# Altium schematic symbol library PSSL3.SchLib: 184 symbols (part 2 of 3)
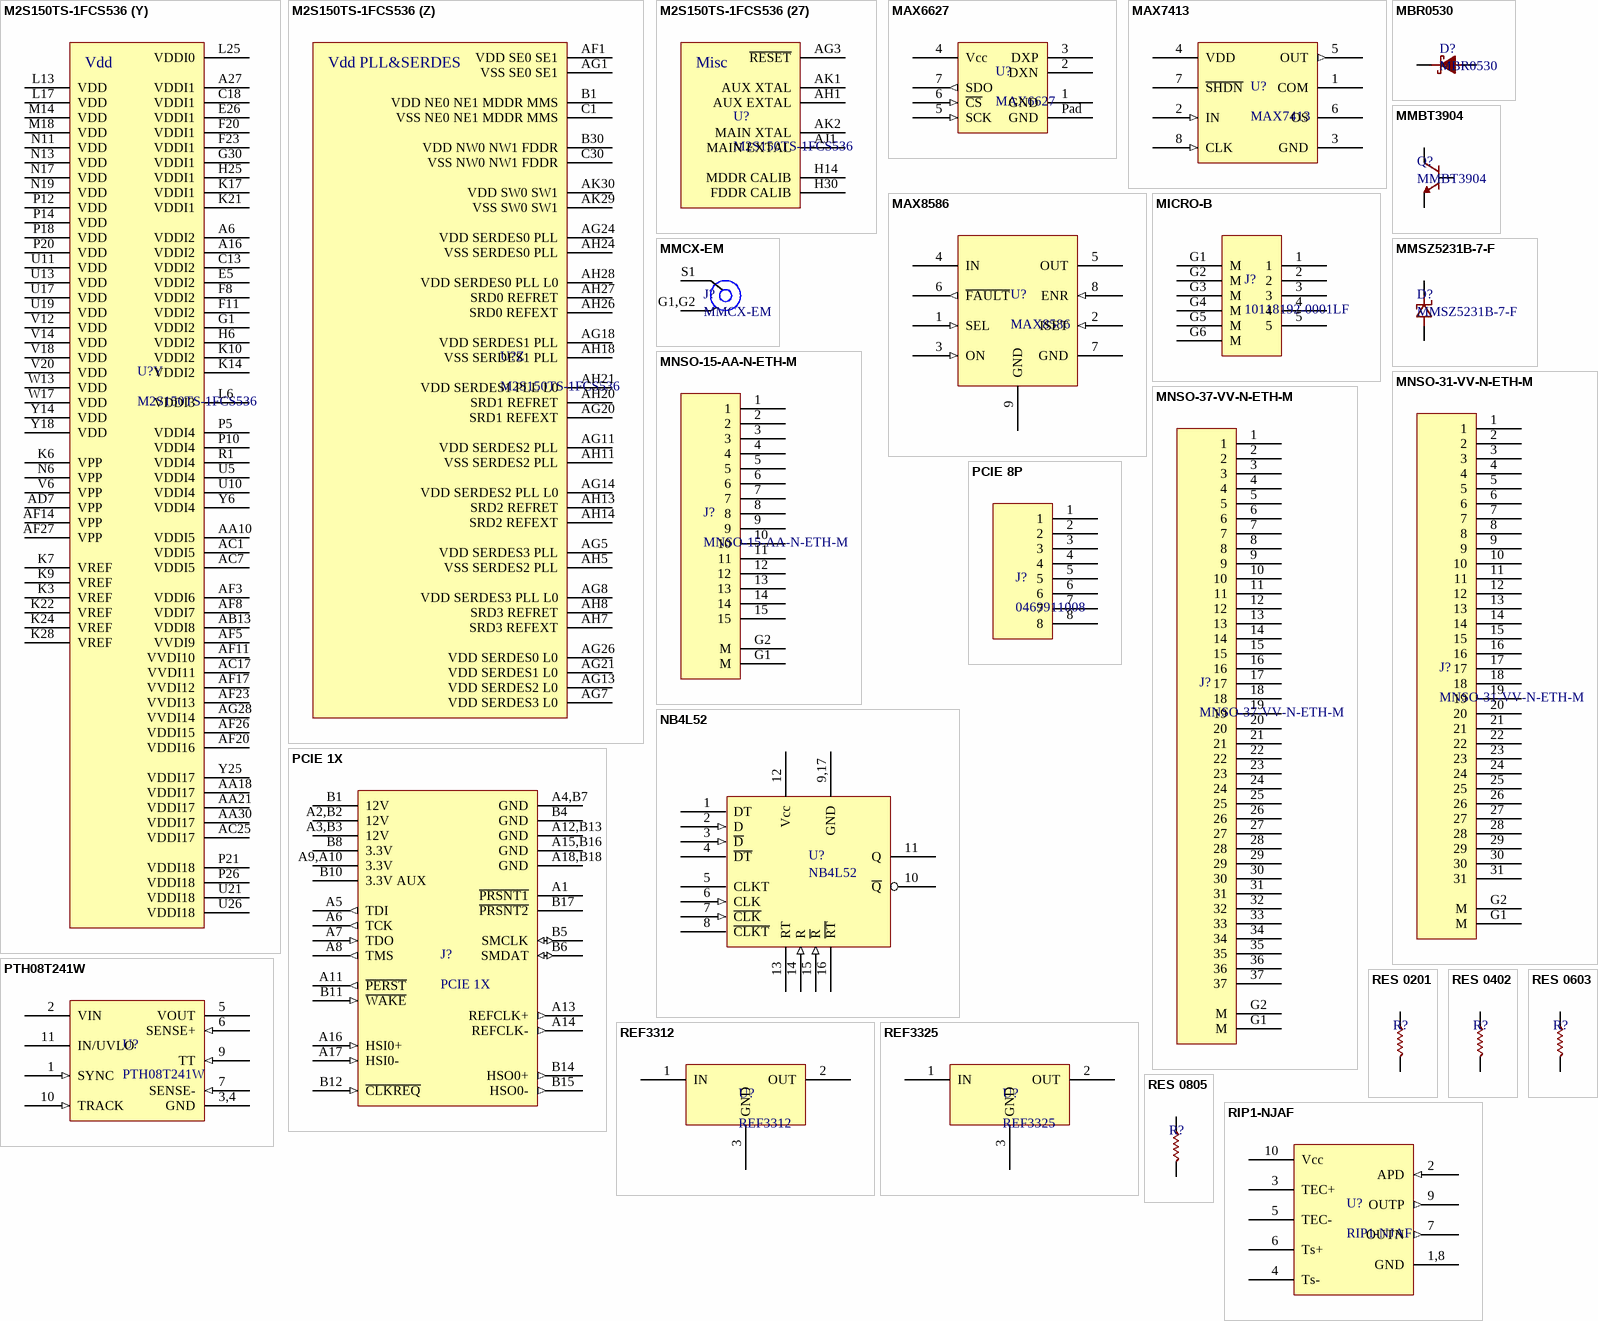
[diagram p10: symbols M2S150TS-1FCS536 to RIP1-NJAF]

## M2S150TS-1FCS536
designator U?
SmartFusion2 SoC FPGA; Ref: M2S150TS-1FCS536
footprint FCS536 (Microsemi FCS536 BGA)
part A pins: L21 M170P/CCC NW1 C3 (io), L22 M170N (io), L23 M171P/GB4/CCC NW1 C2 (io), L24 M171N (io), L26 M173N (io), L27 M172N (io), L28 M172P/GB0/CCC NW0 C3 (io), L30 M173P/CCC NW0 C2 (io)
part B pins: A18 D127P/FDDR_ADDR12 (io), A19 D127N/FDDR_ADDR13 (io), A20 D126N/FDDR_ADDR15 (io), A21 D126P/FDDR_ADDR14 (io), A23 D155P/FDDR_DQS1_P (io), A24 D155N/FDDR_DQS1_N (io), A25 D159N/FDDR DQ6 (io), A26 D159P/FDDR DQ5 (io), A28 D161N/FDDR DQS0 N (io), A29 D161P/FDDR DQS0 P (io), C20 D133P/FDDR_ADDR1 (io), C21 D133N/FDDR_ADDR2 (io), C23 D158N/FDDR TM0 O (io), C24 D158P/FDDR DQ7 (io), C26 D160N/FDDR DQ4 (io), C27 D162N/FDDR DQ3 (io), C28 D162P/FDDR DQ2 (io), D18 D131N/FDDR_ADDR6 (io), D20 D135N/FDDR_BA1 (io), D23 D154P/FDDR_TM0_I (io), D26 D160P/FDDR RDQS0 (io), D28 D163P/FDDR DQ0 (io), D30 D163N/FDDR DQ1 (io), E18 D131P/FDDR_ADDR5 (io), E20 D138N/FDDR_CS_N (io), E21 D135P/FDDR_BA0 (io), E23 D154N/FDDR_RDQS1 (io), E24 D157N/FDDR DQ9 (io), E27 D169P/FDDR TME O (io), E28 D166P/FDDR TME I (io), E30 D167N/FDDR DQSE N (io), F17 D129N/FDDR_ADDR9 (io), F18 D129P/FDDR_ADDR8 (io), F21 D138P/FDDR_CKE (io), F24 D157P/FDDR DQ8 (io), F30 D167P/FDDR DQSE P (io), G17 D130N/FDDR_ADDR7 (io), G20 D137N/FDDR_CAS_N (io), G21 D137P/FDDR_RST_N (io), G23 D152P/FDDR_DQ14 (io), G24 D153P/FDDR_DQ12 (io), G25 D156N/FDDR_DQ11 (io), G26 D156P/FDDR_DQ10 (io), G28 D164P/FDDR DQE1 (io), H17 D130P/FDDR_ODT (io), H18 D132N/FDDR_ADDR4 (io), H20 D134P/FDDR_BA2 (io), H23 D152N/FDDR_DQ15 (io), H24 D153N/FDDR_DQ13 (io), H26 D140N/FDDR_DQ31 (io), H27 D169N (io), H28 D164N/FDDR DQE0 (io), J17 D128N/FDDR_ADDR11 (io), J18 D132P/FDDR_ADDR3 (io), J20 D136P/FDDR_CLK_P (io), J21 D134N/FDDR_ADDR0 (io), J30 D166N/FDDR DM RDQSE (io), K18 D128P/FDDR_ADDR10 (io), K20 D136N/FDDR_CLK_N (io), K25 D139N/FDDR_WE_N (io), K26 D139P/FDDR_RAS_N (io)
part C pins: A2 D90P/MDDR_BA2 (io), A3 D90N/MDDR_ADDR0 (io), A4 D82P/MDDR_ADDR14 (io), A5 D82N/MDDR_ADDR15 (io), A7 D111N/MDDR_DQS1_N (io), A8 D111P/MDDR_DQS1_P (io), A9 D113N/MDDR_DQ9 (io), A10 D113P/MDDR_DQ8 (io), A12 D117P/MDDR_DQS0_P (io), A13 D117N/MDDR_DQS0_N (io), A14 D123N/MDDR_DQSE_N (io), A15 D123P/MDDR_DQSE_P (io), C3 D87N/MDDR_ADDR6 (io), C4 D87P/MDDR_ADDR5 (io), C5 D89N/MDDR_ADDR2 (io), C7 D110P/MDDR_TM0_I (io), C8 D114N/MDDR_TM0_O (io), C10 D119P/MDDR_DQ0 (io), C11 D119N/MDDR_DQ1 (io), C14 D122P/MDDR_TME_I (io), C17 D124P/CCC_NE0_C2 (io), D1 D83P/MDDR_ADDR12 (io), D3 D86P/MDDR_ODT (io), D5 D89P/MDDR_ADDR1 (io), D8 D109P/MDDR_DQ12 (io), D11 D118N/MDDR_DQ3 (io), D13 D121N (io), D14 D125P/MDDR_TME_O (io), D17 D125N (io), E1 D83N/MDDR_ADDR13 (io), E3 D86N/MDDR_ADDR7 (io), E4 D91N/MDDR_BA1 (io), E7 D109N/MDDR_DQ13 (io), E8 D108P/MDDR_DQ14 (io), E10 D110N/MDDR_RDQS1 (io), E11 D118P/MDDR_DQ2 (io), E13 D121P (io), F1 D85P/MDDR_ADDR8 (io), F7 D108N/MDDR_DQ15 (io), F10 D114P/MDDR_DQ7 (io), F13 D120N/CCC_NE1_C3/MDDR_DQE0 (io), F14 D120P/GB12/CCC_NE1_C2/MDDR_DQE1 (io), G3 D85N/MDDR_ADDR9 (io), G5 D91P/MDDR_BA0 (io), G6 D93P/MDDR_RST_N (io), G7 D112N/MDDR_DQ11 (io), G8 D112P/MDDR_DQ10 (io), G10 D116P/MDDR_RDQS0 (io), G11 D116N/MDDR_DQ4 (io), G14 D122N/MDDR_RDQSE (io), H1 D84P/MDDR_ADDR10 (io), H3 D88N/MDDR_ADDR4 (io), H4 D88P/MDDR_ADDR3 (io), H5 D93N/MDDR_CAS_N (io), H7 D94N/MDDR_CS_N (io), H8 D94P/MDDR_CKE (io), H11 D115N/MDDR_DQ6 (io), H13 D124N/GB8/CCC_NE0_C3 (io), J1 D84N/MDDR_ADDR11 (io), J10 D92N/MDDR_CLK_N (io), J11 D115P/MDDR_DQ5 (io), J13 D95N/MDDR_WE_N (io), J14 D95P/MDDR_RAS_N (io), K11 D92P/MDDR_CLK_P (io), K13 D96N/MDDR_DQ31 (io)
part D pins: K5 M75P/UART1CLK/IO25B (io), L1 M81P/I2C0SDA/IO30B (io), L3 M80P/UART0RXD/IO28B (io), L4 M80N/UART0CLK/IO29B (io), L5 M75N/UART1RXD/IO26B (io), L7 M77P/UART0CTS/IO19B (io), L8 M76P/UART0RTS/IO17B (io), L9 M79N/UART0TXD/IO27B (io), L10 M74N/UART1TXD/IO24B (io), M1 M81N/I2C0SCL/IO31B (io), N4 M72P/UART1CTS/IO13B (io), N5 M71P/UART1RTS/IO11B (io)
part E pins: AA3 M42P/GB14/CCC SE1 C1 (io), N1 M57P/SPI1SS2/IO15A (io), N7 M53N/SPI1SS7/IO24A (io), N9 M56N/SPI1SS1/IO14A (io), N10 M56P/SPI0SS3/USB A D7/IO10A (io), P1 M57N/SPI1SS3/IO16A (io), P3 M55P/SPI0SS1/USB A D5/IO8A (io), P4 M55N/SPI0SS2/USB A D6/IO9A (io), P6 M48N/SPI0SS5/IO20A (io), P7 M53P/SPI1SS6/IO23A (io), P8 M52N/SPI1SS5/IO18A (io), P9 M52P/SPI1SS4/IO17A (io), T1 M50N/SPI1SDI/IO11A (io), U1 M50P/SPI1CLK (io), U3 M51N/SPI1SS0/IO13A (io), U4 M49N/SPI0SS7/IO22A (io), U6 M48P/SPI0SS4/IO19A (io), U7 M47N/SPI0SS0/USB A NXT/IO7A (io), U8 M46N/SPI0SDI/USB A DIR/IO5A (io), U9 M45N/I2C1SCL/USB A D4/IO1A (io), V1 M44P/CANRX/USB A D1/IO3A (io), V4 M51P/SPI1SDO/IO12A (io), V5 M49P/SPI0SS6/IO21A (io), V7 M47P/SPI0SDO/USB A STP/IO6A (io), V9 M46P/SPI0CLK/USB A CLK (io), V10 M45P/I2C1SDA/USB A D3/IO0A (io), W1 M44N/CANTXEN/USB A D2/IO4A (io), Y3 M42N (io), Y4 M43P (io), Y5 M43N/CANTX/USB A D0/IO2A (io), Y7 M41N (io), Y8 M41P/GB10/CCC SE0 C1 (io), Y9 M39P/CCC NE0 C1 (io), Y10 M40P/CCC NE1 C1 (io)
part F pins: AA1 M37P/GB9/CCC SE0 C0 (io), AA5 M33P/USB B D6 (io), AA6 M32N/USB B D5 (io), AA7 M32P/USB B D4 (io), AA8 M27N/USB B D7 (io), AA9 M28P/USB B CLK (io), AA11 M29P/USB B STP (io), AB1 M38P/G13/CCC SE1 C0 (io), AB10 M28N/USB B DIR (io), AB11 M29N/USB B NXT (io), AC3 M36P/CCC NE1 C0 (io), AC4 M35P/CCC NE0 C0 (io), AC5 M31PUSB B D2 (io), AC6 M31NUSB B D3 (io), AC8 M30P/USB B D0 (io), AD8 M30N/USB B D1 (io)
part G pins: AD1 SC SPI CLK (io), AD3 SC SPI SDO (io), AD4 SC SPI SS (io), AD6 F GOLD N (io), AE1 SC SPI SDI (io)
part H pins: AE7 TCK (io), AE8 TDO (io), AE10 TDI (io), AE11 TRSTB (io), AE13 TMS (io), AF4 SEL (io)
part I pins: AA13 M281P/GB15/CCC SE1 C2 (io), AC11 M282N (io), AC13 M281N (io), AD11 M283P (io), AD13 M282P/CCC SE1 C3 (io)
part J pins: AH3 M279N/SRD3 REF0 N (io), AH4 M279P/SRD3 REF0 P (io)
part K pins: AG10 M277P/SRD2 REF0 P (io), AH10 M277N/SRD2 REF0 N (io)
part L pins: AA14 M275P/CCC SE0 C2 (io), AA17 M274N/CCC SW1 C3 (io), AB14 M275N (io), AB17 M274P/GB7/CCC SW1 C2 (io), AD14 M276N (io), AD17 M273N/PROBE B (io), AE14 M276P/GB11/CCC SE0 C3 (io), AE17 M273P/PROBE A (io)
part M pins: AG17 M271P/SRD1 REF0 P (io), AH17 M277N/SRD1 REF0 N (io)
part N pins: AG23 M269P/SRD0 REF0 P (io), AH23 M269N/SRD0 REF0 N (io)
part O pins: AF30 M268N (io), AG30 M268P/GB3/CCC SW0 C3 (io), AH30 M267P/CCC SW0 C2 (io), AJ30 M267N (io)
part P pins: AD24 MD248P (io), AD25 MD246N (io), AD26 MD246P (io), AD28 MD244N (io), AE24 MD248N (io), AF28 MD244P (io)
part Q pins: AD18 MD217N (io), AD20 MD218N (io), AD21 MD218P/GB1/CCC SW0 C1 (io), AD23 MD219P/CCC SW1 C0 (io), AE18 MD217P/GB5/CCC SW1 C1 (io), AE20 MD220P/CCC SW0 C0 (io), AE21 MD220N (io), AE23 MD219N (io)
part R pins: AA20 M214P/GB2/CCC NW0 C1 (io), AA22 M211P (io), AA24 M204N (io), AA25 M206P (io), AA26 M206N (io), AA28 M210P (io), AB18 M216N (io), AB20 M214N (io), AB21 M213N (io), AB30 M208N (io), AC18 M216P/CCC NW0 C0 (io), AC21 M213P/GB6/CCC NW1 C1 (io), AC23 M212P (io), AC24 M212N (io), AC26 M215P/CCC NW1 C0 (io), AC27 M215N (io), AC28 M209N (io), AC30 M208P (io), AD30 M209P (io), U30 M199N (io), V21 M202P (io), V22 M202N (io), V24 M201P (io), V25 M201N (io), V26 M203P (io), V27 M203N (io), V30 M199P (io), W30 M197P (io), Y21 M211N (io), Y22 M205N (io), Y23 M205P (io), Y24 M204P (io), Y26 M198N (io), Y27 M198P (io), Y28 M210N (io), Y30 M197N (io)
part S pins: M30 M185P (io), N21 M187P (io), N22 M188P (io), N24 M189P (io), N25 M190P (io), N26 M192P (io), N27 M191P (io), N30 M185N (io), P22 M187N (io), P23 M188N (io), P24 M189N (io), P25 M190N (io), P27 M192N (io), P28 M191N (io), P30 M184N (io), R30 M184P (io), U22 M195N (io), U23 M195P (io), U24 M196P (io), U25 M196N (io), U27 M194P (io), U28 M194N (io)
part T pins: AK4 SRD3 TX0 P (out), AK5 SRD3 TX0 N (out), AK7 SRD3 RX0 N (in), AK8 SRD3 RX0 P (in)
part U pins: AK10 SRD2 TX0N (out), AK11 SRD2 TX0P (out), AK13 SRD2 RX0N (in), AK14 SRD2 RX0P (in)
part V pins: AK17 SRD1 TX0P (out), AK18 SRD1 TX0N (out), AK20 SRD1 RX0N (in), AK21 SRD1 RX0P (in)
part W pins: AK23 SRD0 TX0P (out), AK24 SRD0 TX0N (out), AK26 SRD0 RX0N (in), AK27 SRD0 RX0P (in)
part X pins: A1 VSS (power), A11 VSS (power), A17 VSS (power), A22 VSS (power), A30 VSS (power), AA4 VSS (power), AA23 VSS (power), AA27 VSS (power), AC10 VSS (power), AC14 VSS (power), AC20 VSS (power), AD5 VSS (power), AD10 VSS (power), AD27 VSS (power), AE30 VSS (power), AF7 VSS (power), AF10 VSS (power), AF13 VSS (power), AF18 VSS (power), AF21 VSS (power), AF24 VSS (power), AG4 VSS (power), AG27 VSS (power), AK3 VSS (power), AK6 VSS (power), AK9 VSS (power), AK12 VSS (power), AK15 VSS (power), AK16 VSS (power), AK19 VSS (power), AK22 VSS (power), AK25 VSS (power), AK28 VSS (power), D4 VSS (power), D7 VSS (power), D10 VSS (power), D21 VSS (power), D24 VSS (power), D27 VSS (power), E14 VSS (power), E17 VSS (power), G4 VSS (power), G13 VSS (power), G18 VSS (power), G27 VSS (power), H10 VSS (power), H21 VSS (power), K1 VSS (power), K4 VSS (power), K8 VSS (power), K23 VSS (power), K27 VSS (power), K30 VSS (power), L11 VSS (power), L14 VSS (power), L18 VSS (power), L20 VSS (power), M13 VSS (power), M17 VSS (power), N3 VSS (power), N8 VSS (power), N12 VSS (power), N14 VSS (power), N18 VSS (power), N20 VSS (power), N23 VSS (power), N28 VSS (power), P11 VSS (power), P13 VSS (power), P17 VSS (power), P19 VSS (power), T30 VSS (power), U12 VSS (power), U14 VSS (power), U18 VSS (power), U20 VSS (power), V3 VSS (power), V8 VSS (power), V11 VSS (power), V13 VSS (power), V17 VSS (power), V19 VSS (power), V23 VSS (power), V28 VSS (power), W14 VSS (power), W18 VSS (power), Y1 VSS (power), Y11 VSS (power), Y13 VSS (power), Y17 VSS (power), Y20 VSS (power)
part Y pins: A6 VDDI2 (power), A16 VDDI2 (power), A27 VDDI1 (power), AA10 VDDI5 (power), AA18 VDDI17 (power), AA21 VDDI17 (power), AA30 VDDI17 (power), AB13 VDDI8 (power), AC1 VDDI5 (power), AC7 VDDI5 (power), AC17 VVDI11 (power), AC25 VDDI17 (power), AD7 VPP (power), AF3 VDDI6 (power), AF5 VVDI9 (power), AF8 VDDI7 (power), AF11 VVDI10 (power), AF14 VPP (power), AF17 VVDI12 (power), AF20 VDDI16 (power), AF23 VVDI13 (power), AF26 VDDI15 (power), AF27 VPP (power), AG28 VVDI14 (power), C13 VDDI2 (power), C18 VDDI1 (power), E5 VDDI2 (power), E26 VDDI1 (power), F8 VDDI2 (power), F11 VDDI2 (power), F20 VDDI1 (power), F23 VDDI1 (power), G1 VDDI2 (power), G30 VDDI1 (power), H6 VDDI2 (power), H25 VDDI1 (power), K3 VREF (power), K6 VPP (power), K7 VREF (power), K9 VREF (power), K10 VDDI2 (power), K14 VDDI2 (power), K17 VDDI1 (power), K21 VDDI1 (power), K22 VREF (power), K24 VREF (power), K28 VREF (power), L6 VDDI3 (power), L13 VDD (power), L17 VDD (power), L25 VDDI0 (power), M14 VDD (power), M18 VDD (power), N6 VPP (power), N11 VDD (power), N13 VDD (power), N17 VDD (power), N19 VDD (power), P5 VDDI4 (power), P10 VDDI4 (power), P12 VDD (power), P14 VDD (power), P18 VDD (power), P20 VDD (power), P21 VDDI18 (power), P26 VDDI18 (power), R1 VDDI4 (power), U5 VDDI4 (power), U10 VDDI4 (power), U11 VDD (power), U13 VDD (power), U17 VDD (power), U19 VDD (power), U21 VDDI18 (power), U26 VDDI18 (power), V6 VPP (power), V12 VDD (power), V14 VDD (power), V18 VDD (power), V20 VDD (power), W13 VDD (power), W17 VDD (power), Y6 VDDI4 (power), Y14 VDD (power), Y18 VDD (power), Y25 VDDI17 (power)
part Z pins: AF1 VDD SE0 SE1 (power), AG1 VSS SE0 SE1 (power), AG5 VDD SERDES3 PLL (power), AG7 VDD SERDES3 L0 (power), AG8 VDD SERDES3 PLL L0 (power), AG11 VDD SERDES2 PLL (power), AG13 VDD SERDES2 L0 (power), AG14 VDD SERDES2 PLL L0 (power), AG18 VDD SERDES1 PLL (power), AG20 SRD1 REFEXT (power), AG21 VDD SERDES1 L0 (power), AG24 VDD SERDES0 PLL (power), AG26 VDD SERDES0 L0 (power), AH5 VSS SERDES2 PLL (power), AH7 SRD3 REFEXT (power), AH8 SRD3 REFRET (power), AH11 VSS SERDES2 PLL (power), AH13 SRD2 REFRET (power), AH14 SRD2 REFEXT (power), AH18 VSS SERDES1 PLL (power), AH20 SRD1 REFRET (power), AH21 VDD SERDES1 PLL L0 (power), AH24 VSS SERDES0 PLL (power), AH26 SRD0 REFEXT (power), AH27 SRD0 REFRET (power), AH28 VDD SERDES0 PLL L0 (power), AK29 VSS SW0 SW1 (power), AK30 VDD SW0 SW1 (power), B1 VDD NE0 NE1 MDDR MMS (power), B30 VDD NW0 NW1 FDDR (power), C1 VSS NE0 NE1 MDDR MMS (power), C30 VSS NW0 NW1 FDDR (power)
part 27 pins: AG3 ~{RESET} (power), AH1 AUX EXTAL (power), AJ1 MAIN EXTAL (power), AK1 AUX XTAL (power), AK2 MAIN XTAL (power), H14 MDDR CALIB (power), H30 FDDR CALIB (power)
part A text: Bank 0; CCC NW0; CCC NW1
part B text: Bank 1; FDDR
part C text: Bank 2; MDDR; CCC NE0; CCC NE1
part D text: Bank 3; MMUART0; MMUART1; I2C0; GPIO B
part E text: Bank 4; SPI0; SPI1; I2C1; CAN; USB A; CCC NE0; CCC NE1; CCC SE0; CCC SE1; GPIO A
part F text: Bank 5; USB B; CCC NE0; CCC NE1; CCC SE0; CCC SE1
part G text: Bank 6; SC SPI
part H text: Bank 7; JTAG
part I text: Bank 8; CCC SE1
part J text: Bank 9; SERDES 3
part K text: Bank 10; SERDES 2
part L text: Bank 11; CCC SE0; CCC SW1; PROBES
part M text: Bank 12; SERDES 1
part N text: Bank 13; SERDES 0
part O text: Bank 14; CCC SW0
part P text: Bank 15
part Q text: Bank 16; CCC SW0; CCC SW1
part R text: Bank 17; CCC NW0; CCC NW1
part S text: Bank 18
part T text: SERDES 3
part U text: SERDES 2
part V text: SERDES 1
part W text: SERDES 0
part X text: Vss
part Y text: Vdd
part Z text: Vdd PLL&SERDES
part 27 text: Misc

## MAX6627
designator U?
Remote ±1°C Accurate Digital Temperature Sensors with SPI-Compatible Serial Interface; Ref: MAX6627
footprint TDFN8 (Maxim TDFN8-EP T833-2 package)
pins: 1 GND (power) "Ground", 2 DXN (power) "Power input", 3 DXP (power) "Power input", 4 Vcc (power) "Power input", 5 SCK (in), 6 ~{CS} (in), 7 SDO (out) "Output Fault Indicator", Pad GND (power) "Ground"

## MAX7413
designator U?
5th-Order, Lowpass, / Switched-Capacitor Filters; Ref: MAX7413
footprint uMAX8 (VSSOP 8 Maxim variation)
pins: 1 COM (power) "Power input", 2 IN (in) "Output Fault Indicator", 3 GND (power) "Ground", 4 VDD (power) "Power input", 5 OUT (out) "Output Fault Indicator", 6 OS (power) "Ground", 7 ~{SHDN} (power) "Power input", 8 CLK (in) "Output Fault Indicator"

## MAX8586
designator U?
Single 1.2A USB Switch; Ref: MAX8586
footprint TDFN8 (Maxim TDFN8-EP T833-2 package)
pins: 1 SEL (in) "Polarity selection", 2 ISET (in) "Current limit setting", 3 ON (in) "On/Off Control", 4 IN (power) "Power input", 5 OUT (power) "Power input", 6 ~{FAULT} (out) "Output Fault Indicator", 7 GND (power) "Ground", 8 ENR (in) "Enable auto restart", 9 GND (power) "Ground"

## MBR0530
designator D?
Schottky Barrier Rectifier, 500mA, 30V; Ref: MBR0530LT1G
footprint SOD-123
pins: 1, 2

## MICRO-B
designator J?, comment 10118192-0001LF
Micro-B USB connector; Ref: 10118192-0001LF; Digikey: 609-4613-1-ND
footprint Micro-B USB (Micro-B USB Connector)
pins: 1 (power) "Output Fault Indicator", 2 (power) "Ground", 3 (power) "Ground", 4 (power) "Ground", 5 (power) "Ground", G1 M (power) "Ground", G2 M (power) "Ground", G3 M (power) "Ground", G4 M (power) "Ground", G5 M (power) "Ground", G6 M (power) "Ground"

## MMBT3904
designator Q?
NPN General-Purpose transistor; Ref: MMBT3904
footprint TSOT-23-3
pins: B, C, E

## MMCX-EM
designator J?
MMCX edge mount coaxial connector; Ref: MMCX-J-P-X-ST-EM1
footprint MMCX-J-P-X-ST-EM1
pins: G1,G2 SHEILD, G2 SHEILD, S1 CORE

## MMSZ5231B-7-F
designator D?
500mW Surface Mounte Zener Diode; Value: 5V1; Digikey ref: MMSZ5231B-FDICT-ND; Ref: MMSZ5231B-7-F
footprint SOD-123
pins: 1, 2

## MNSO-15-AA-N-ETH-M
designator J?
15 Contacts Surface Mount Female Nano-D; Ref: MNSO-15-AA-N-ETH-M
footprint MNSO-15-AA-N-ETH-M (Omnetics MNSO-15-AA-N-ETH-M)
pins: 1 (power) "Output Fault Indicator", 2 (power) "Ground", 3 (power) "Ground", 4 (power) "Ground", 5 (power) "Ground", 6 (power) "Output Fault Indicator", 7 (power) "Ground", 8 (power) "Ground", 9 (power) "Ground", 10 (power) "Ground", 11 (power) "Output Fault Indicator", 12 (power) "Ground", 13 (power) "Ground", 14 (power) "Ground", 15 (power) "Ground", G1 M (power) "Ground", G2 M (power) "Ground"

## MNSO-31-VV-N-ETH-M
designator J?
31 Contacts Surface Mount Vertical Female Nano-D; COTS ref: A29200-031; Ref: MNSO-31-VV-N-ETH-M
footprint MNSO-31-VV-N-ETH-M (Omnetics MNSO-31-VV-N-ETH-M)
pins: 1 (power) "Output Fault Indicator", 2 (power) "Ground", 3 (power) "Ground", 4 (power) "Ground", 5 (power) "Ground", 6 (power) "Output Fault Indicator", 7 (power) "Ground", 8 (power) "Ground", 9 (power) "Ground", 10 (power) "Ground", 11 (power) "Output Fault Indicator", 12 (power) "Ground", 13 (power) "Ground", 14 (power) "Ground", 15 (power) "Ground", 16 (power) "Output Fault Indicator", 17 (power) "Ground", 18 (power) "Ground", 19 (power) "Ground", 20 (power) "Ground", 21 (power) "Output Fault Indicator", 22 (power) "Ground", 23 (power) "Ground", 24 (power) "Ground", 25 (power) "Ground", 26 (power) "Output Fault Indicator", 27 (power) "Ground", 28 (power) "Ground", 29 (power) "Ground", 30 (power) "Ground", 31 (power) "Ground", G1 M (power) "Ground", G2 M (power) "Ground"

## MNSO-37-VV-N-ETH-M
designator J?
37 Contacts Surface Mount Vertical Female Nano-D; COTS ref: A29200-037; Ref: MNSO-37-VV-N-ETH-M
footprint MNSO-37-VV-N-ETH-M (Omnetics MNSO-31-VV-N-ETH-M)
pins: 1 (power) "Output Fault Indicator", 2 (power) "Ground", 3 (power) "Ground", 4 (power) "Ground", 5 (power) "Ground", 6 (power) "Output Fault Indicator", 7 (power) "Ground", 8 (power) "Ground", 9 (power) "Ground", 10 (power) "Ground", 11 (power) "Output Fault Indicator", 12 (power) "Ground", 13 (power) "Ground", 14 (power) "Ground", 15 (power) "Ground", 16 (power) "Output Fault Indicator", 17 (power) "Ground", 18 (power) "Ground", 19 (power) "Ground", 20 (power) "Ground", 21 (power) "Output Fault Indicator", 22 (power) "Ground", 23 (power) "Ground", 24 (power) "Ground", 25 (power) "Ground", 26 (power) "Output Fault Indicator", 27 (power) "Ground", 28 (power) "Ground", 29 (power) "Ground", 30 (power) "Ground", 31 (power) "Ground", 32 (power) "Ground", 33 (power) "Output Fault Indicator", 34 (power) "Ground", 35 (power) "Ground", 36 (power) "Ground", 37 (power) "Ground", G1 M (power) "Ground", G2 M (power) "Ground"

## NB4L52
designator U?
Differential Data/Clock/Reset D Flip-Flop, LVPECL output
footprint LFCSP CP 16 2 (Analog devive package LFCSP CP 16 2)
pins: 1 DT (power), 2 D (in), 3 ~{D} (in), 4 ~{DT} (power), 5 CLKT (power), 6 CLK (in), 7 ~{CLK} (in), 8 ~{CLKT} (power), 9,17 GND (power), 10 ~{Q}, 11 Q, 12 Vcc (power), 13 RT (power), 14 R (in), 15 ~{R} (in), 16 ~{RT} (power), 17 GND (power)

## PCIE 1X
designator J?  (no BOM)
PCI Express x1 edge connector; Ref: PCIE 1X
footprint PCIe x1 (PCIe x1 edge connetor)
pins: A1 ~{PRSNT1} (hiz) "Precense detector", A2,B2 12V (power) "Power input", A3,B3 12V (power) "Power input", A4,B7 GND (power) "Power input", A5 TDI (out) "JTAG", A6 TCK (out) "JTAG", A7 TDO (in) "JTAG", A8 TMS (out) "JTAG", A9,A10 3.3V (power) "Power input", A11 ~{PERST} (out) "JTAG", A12,B13 GND (power) "Power input", A13 REFCLK+ (out) "JTAG", A14 REFCLK- (out) "JTAG", A15,B16 GND (power) "Power input", A16 HSI0+ (in) "JTAG", A17 HSI0- (in) "JTAG", A18,B18 GND (power) "Power input", B1 12V (power) "Power input", B4 GND (power) "Power input", B5 SMCLK (io) "Power input", B6 SMDAT (io) "Power input", B8 3.3V (power) "Power input", B10 3.3V AUX (power) "Power input", B11 ~{WAKE} (in) "JTAG", B12 ~{CLKREQ} (in) "JTAG", B14 HSO0+ (out) "JTAG", B15 HSO0- (out) "JTAG", B17 ~{PRSNT2} (hiz) "Precense detector"

## PCIE 8P
designator J?, comment 0469911008
Molex MiniFit Jr 8 pin, PCIe power connector; Ref: 0469911008
footprint PCIE 8P POWER (Molex MiniFit Jr 0469911008)
pins: 1 (power) "Output Fault Indicator", 2 (power) "Ground", 3 (power) "Ground", 4 (power) "Ground", 5 (power) "Ground", 6 (power) "Output Fault Indicator", 7 (power) "Ground", 8 (power) "Ground"

## PTH08T241W
designator U?
4.5-V to 14-V Input, non-isolated, wide-output, adjustable power module; Ref: PTH08T241W
footprint PTH08T241
pins: 1 SYNC (in) "Output Fault Indicator", 2 VIN (power) "Power input", 3,4 GND (power) "Ground", 4 GND (power) "Ground", 5 VOUT (power) "Power input", 6 SENSE+ (in) "Power input", 7 SENSE- (in) "Power input", 9 TT (in) "Output Fault Indicator", 10 TRACK (in) "Output Fault Indicator", 11 IN/UVLO (hiz) "On/Off Control"

## REF3312
designator U?
REF33xx 3.9-μA, SC70-3, SOT-23-3, and UQFN-8, 30-ppm/°C Drift Voltage Reference; Ref: REF3312
footprint SC70 (SC70 - SOT323)
pins: 1 IN (power) "Power input", 2 OUT (power) "Power input", 3 GND (power) "Ground"

## REF3325
designator U?
REF33xx 3.9-μA, SC70-3, SOT-23-3, and UQFN-8, 30-ppm/°C Drift Voltage Reference; Ref: REF3325
footprint SC70 (SC70 - SOT323)
pins: 1 IN (power) "Power input", 2 OUT (power) "Power input", 3 GND (power) "Ground"

## RES 0201
designator R?
201 Resistor
footprint 0201 (SMD 0201)
pins: 1, 2

## RES 0402
designator R?
402 Resistor
footprint 0402 (SMD 0402)
pins: 1, 2

## RES 0603
designator R?
603 Resistor
footprint 0603 (SMD 0603)
pins: 1, 2

## RES 0805
designator R?
805 Resistor
footprint 0805 (SMD 0805)
pins: 1, 2

## RIP1-NJAF
designator U?
1GHz APD Photoreceiver; Ref: RIP1-NJAF
footprint TO-8 (Voxtel TO-8)
pins: 1,8 GND (power) "Ground", 2 APD (in) "Polarity selection", 3 TEC+ "Polarity selection", 4 Ts- "Polarity selection", 5 TEC- "Polarity selection", 6 Ts+ "Polarity selection", 7 OUTN (out), 9 OUTP (out), 10 Vcc "Polarity selection"

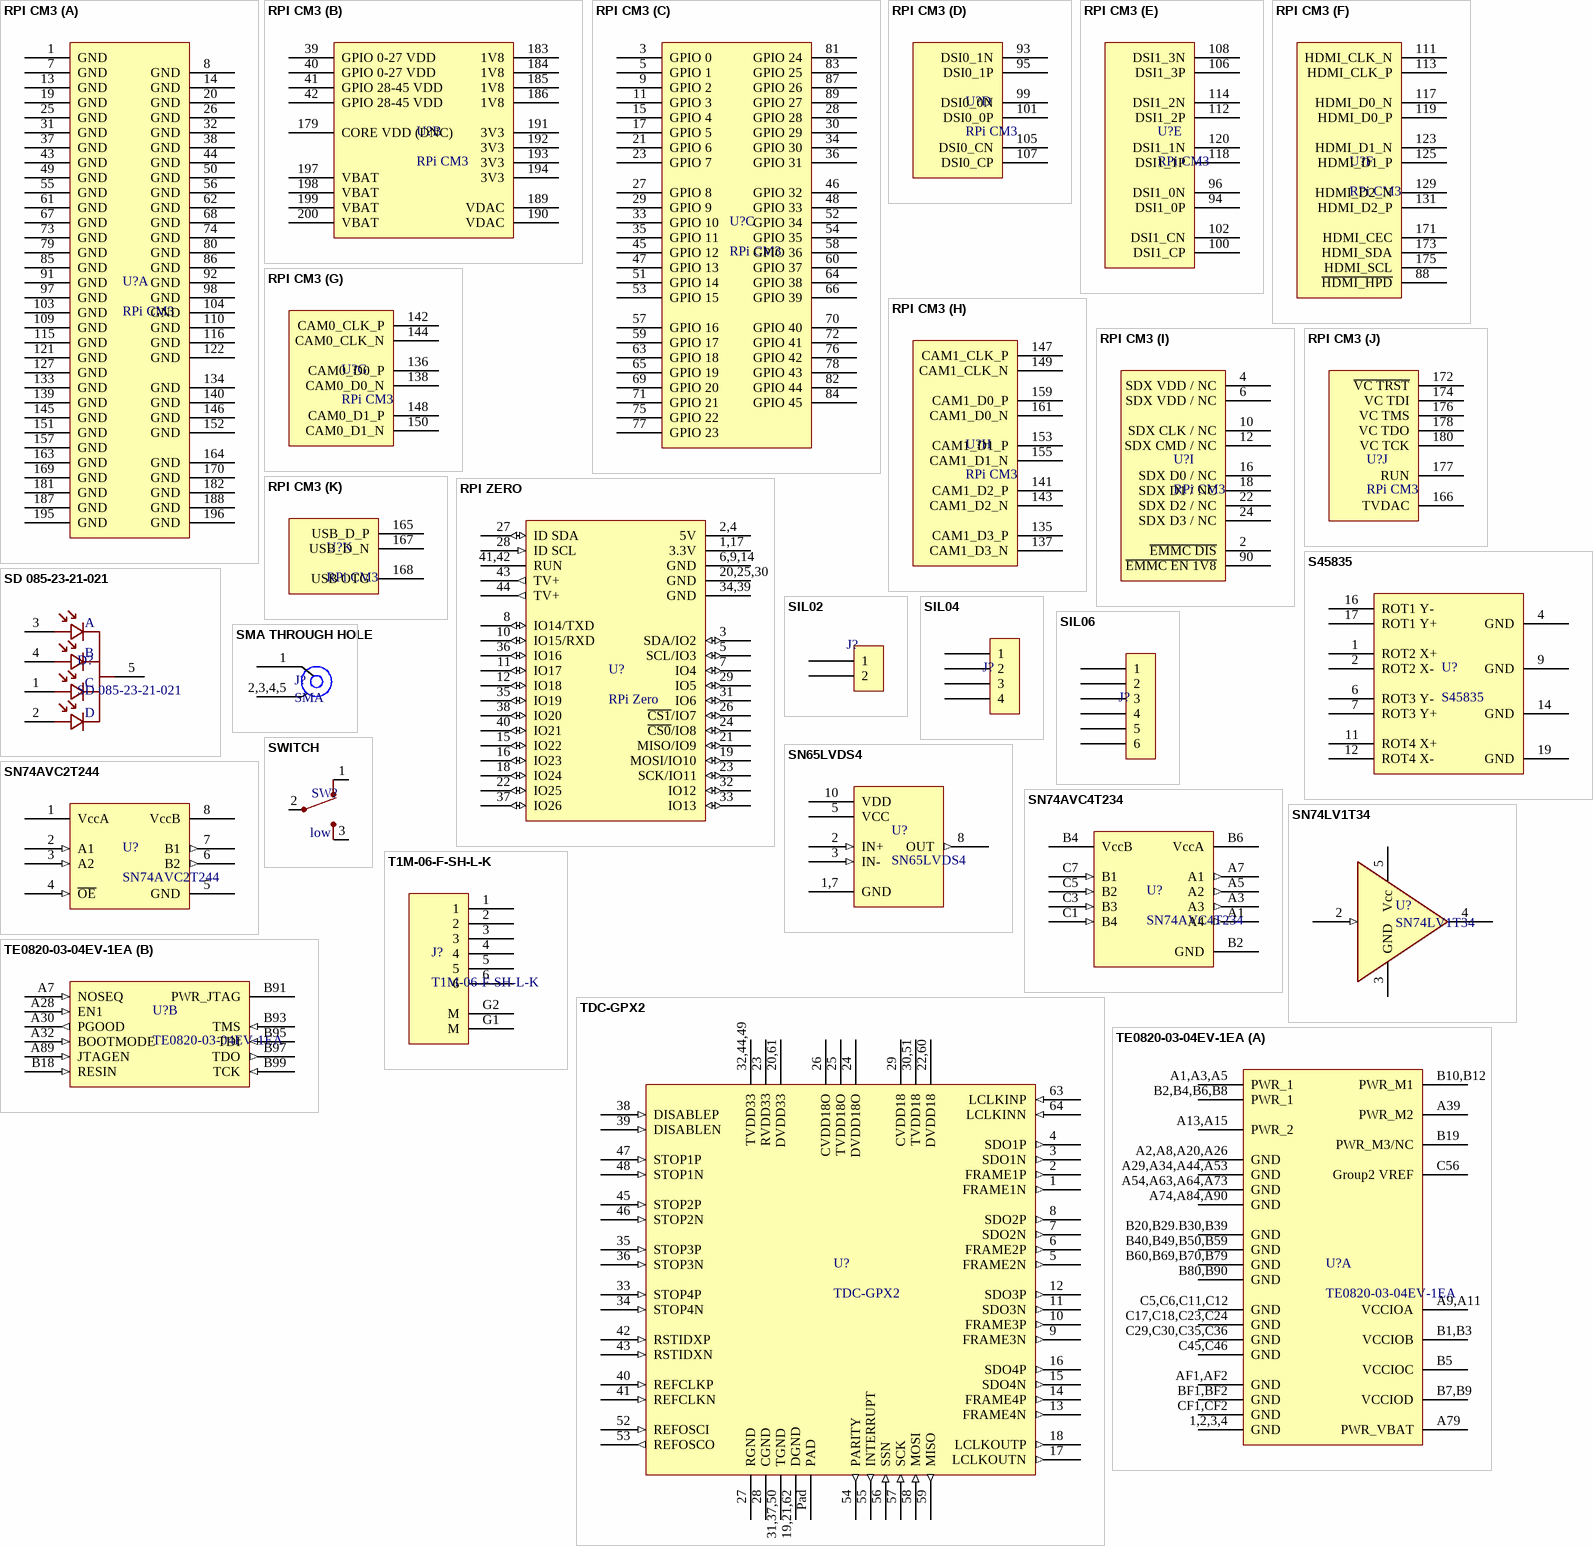
[diagram p7: symbols RPI CM3 to TE0820-03-04EV-1EA]

## RPI CM3
designator U?, comment RPi CM3
footprint DDR2 SODIMM
part A pins: 1 GND "Polarity selection", 7 GND "Polarity selection", 8 GND "Polarity selection", 13 GND "Polarity selection", 14 GND "Polarity selection", 19 GND "Polarity selection", 20 GND "Polarity selection", 25 GND "Polarity selection", 26 GND "Polarity selection", 31 GND "Polarity selection", 32 GND "Polarity selection", 37 GND "Polarity selection", 38 GND "Polarity selection", 43 GND "Polarity selection", 44 GND "Polarity selection", 49 GND "Polarity selection", 50 GND "Polarity selection", 55 GND "Polarity selection", 56 GND "Polarity selection", 61 GND "Polarity selection", 62 GND "Polarity selection", 67 GND "Polarity selection", 68 GND "Polarity selection", 73 GND "Polarity selection", 74 GND "Polarity selection", 79 GND "Polarity selection", 80 GND "Polarity selection", 85 GND "Polarity selection", 86 GND "Polarity selection", 91 GND "Polarity selection", 92 GND "Polarity selection", 97 GND "Polarity selection", 98 GND "Polarity selection", 103 GND "Polarity selection", 104 GND "Polarity selection", 109 GND "Polarity selection", 110 GND "Polarity selection", 115 GND "Polarity selection", 116 GND "Polarity selection", 121 GND "Polarity selection", 122 GND "Polarity selection", 127 GND "Polarity selection", 133 GND "Polarity selection", 134 GND "Polarity selection", 139 GND "Polarity selection", 140 GND "Polarity selection", 145 GND "Polarity selection", 146 GND "Polarity selection", 151 GND "Polarity selection", 152 GND "Polarity selection", 157 GND "Polarity selection", 163 GND "Polarity selection", 164 GND "Polarity selection", 169 GND "Polarity selection", 170 GND "Polarity selection", 181 GND "Polarity selection", 182 GND "Polarity selection", 187 GND "Polarity selection", 188 GND "Polarity selection", 195 GND "Polarity selection", 196 GND "Polarity selection"
part B pins: 39 GPIO 0-27 VDD "Polarity selection", 40 GPIO 0-27 VDD "Polarity selection", 41 GPIO 28-45 VDD "Polarity selection", 42 GPIO 28-45 VDD "Polarity selection", 179 CORE VDD (DNC) "Polarity selection", 183 1V8 "Polarity selection", 184 1V8 "Polarity selection", 185 1V8 "Polarity selection", 186 1V8 "Polarity selection", 189 VDAC "Polarity selection", 190 VDAC "Polarity selection", 191 3V3 "Polarity selection", 192 3V3 "Polarity selection", 193 3V3 "Polarity selection", 194 3V3 "Polarity selection", 197 VBAT "Polarity selection", 198 VBAT "Polarity selection", 199 VBAT "Polarity selection", 200 VBAT "Polarity selection"
part C pins: 3 GPIO 0 "Polarity selection", 5 GPIO 1 "Polarity selection", 9 GPIO 2 "Polarity selection", 11 GPIO 3 "Polarity selection", 15 GPIO 4 "Polarity selection", 17 GPIO 5 "Polarity selection", 21 GPIO 6 "Polarity selection", 23 GPIO 7 "Polarity selection", 27 GPIO 8 "Polarity selection", 28 GPIO 28 "Polarity selection", 29 GPIO 9 "Polarity selection", 30 GPIO 29 "Polarity selection", 33 GPIO 10 "Polarity selection", 34 GPIO 30 "Polarity selection", 35 GPIO 11 "Polarity selection", 36 GPIO 31 "Polarity selection", 45 GPIO 12 "Polarity selection", 46 GPIO 32 "Polarity selection", 47 GPIO 13 "Polarity selection", 48 GPIO 33 "Polarity selection", 51 GPIO 14 "Polarity selection", 52 GPIO 34 "Polarity selection", 53 GPIO 15 "Polarity selection", 54 GPIO 35 "Polarity selection", 57 GPIO 16 "Polarity selection", 58 GPIO 36 "Polarity selection", 59 GPIO 17 "Polarity selection", 60 GPIO 37 "Polarity selection", 63 GPIO 18 "Polarity selection", 64 GPIO 38 "Polarity selection", 65 GPIO 19 "Polarity selection", 66 GPIO 39 "Polarity selection", 69 GPIO 20 "Polarity selection", 70 GPIO 40 "Polarity selection", 71 GPIO 21 "Polarity selection", 72 GPIO 41 "Polarity selection", 75 GPIO 22 "Polarity selection", 76 GPIO 42 "Polarity selection", 77 GPIO 23 "Polarity selection", 78 GPIO 43 "Polarity selection", 81 GPIO 24 "Polarity selection", 82 GPIO 44 "Polarity selection", 83 GPIO 25 "Polarity selection", 84 GPIO 45 "Polarity selection", 87 GPIO 26 "Polarity selection", 89 GPIO 27 "Polarity selection"
part D pins: 93 DSI0_1N "Polarity selection", 95 DSI0_1P "Polarity selection", 99 DSI0_0N "Polarity selection", 101 DSI0_0P "Polarity selection", 105 DSI0_CN "Polarity selection", 107 DSI0_CP "Polarity selection"
part E pins: 94 DSI1_0P "Polarity selection", 96 DSI1_0N "Polarity selection", 100 DSI1_CP "Polarity selection", 102 DSI1_CN "Polarity selection", 106 DSI1_3P "Polarity selection", 108 DSI1_3N "Polarity selection", 112 DSI1_2P "Polarity selection", 114 DSI1_2N "Polarity selection", 118 DSI1_1P "Polarity selection", 120 DSI1_1N "Polarity selection"
part F pins: 88 ~{HDMI_HPD} "Polarity selection", 111 HDMI_CLK_N "Polarity selection", 113 HDMI_CLK_P "Polarity selection", 117 HDMI_D0_N "Polarity selection", 119 HDMI_D0_P "Polarity selection", 123 HDMI_D1_N "Polarity selection", 125 HDMI_D1_P "Polarity selection", 129 HDMI_D2_N "Polarity selection", 131 HDMI_D2_P "Polarity selection", 171 HDMI_CEC "Polarity selection", 173 HDMI_SDA "Polarity selection", 175 HDMI_SCL "Polarity selection"
part G pins: 136 CAM0_D0_P "Polarity selection", 138 CAM0_D0_N "Polarity selection", 142 CAM0_CLK_P "Polarity selection", 144 CAM0_CLK_N "Polarity selection", 148 CAM0_D1_P "Polarity selection", 150 CAM0_D1_N "Polarity selection"
part H pins: 135 CAM1_D3_P "Polarity selection", 137 CAM1_D3_N "Polarity selection", 141 CAM1_D2_P "Polarity selection", 143 CAM1_D2_N "Polarity selection", 147 CAM1_CLK_P "Polarity selection", 149 CAM1_CLK_N "Polarity selection", 153 CAM1_D1_P "Polarity selection", 155 CAM1_D1_N "Polarity selection", 159 CAM1_D0_P "Polarity selection", 161 CAM1_D0_N "Polarity selection"
part I pins: 2 ~{EMMC DIS} "Polarity selection", 4 SDX VDD / NC "Polarity selection", 6 SDX VDD / NC "Polarity selection", 10 SDX CLK / NC "Polarity selection", 12 SDX CMD / NC "Polarity selection", 16 SDX D0 / NC "Polarity selection", 18 SDX D1 / NC "Polarity selection", 22 SDX D2 / NC "Polarity selection", 24 SDX D3 / NC "Polarity selection", 90 ~{EMMC EN 1V8} "Polarity selection"
part J pins: 166 TVDAC "Polarity selection", 172 ~{VC TRST} "Polarity selection", 174 VC TDI "Polarity selection", 176 VC TMS "Polarity selection", 177 RUN "Polarity selection", 178 VC TDO "Polarity selection", 180 VC TCK "Polarity selection"
part K pins: 165 USB_D_P "Polarity selection", 167 USB_D_N "Polarity selection", 168 USB OTG "Polarity selection"

## RPI ZERO
designator U?, comment RPi Zero
ARM single-board computer; Ref: RPi Zero
footprint RPi Zero (Rasberry Pi Zero)
pins: 1,17 3.3V (power) "Power input", 2,4 5V (power) "Power input", 3 SDA/IO2 (io) "Power input", 4 5V (power) "Power input", 5 SCL/IO3 (io) "Power input", 6,9,14 GND (power) "Power input", 7 IO4 (io) "Power input", 8 IO14/TXD (io) "Power input", 9 GND (power) "Power input", 10 IO15/RXD (io) "Power input", 11 IO17 (io) "Power input", 12 IO18 (io) "Power input", 14 GND (power) "Power input", 15 IO22 (io) "Power input", 16 IO23 (io) "Power input", 17 3.3V (power) "Power input", 18 IO24 (io) "Power input", 19 MOSI/IO10 (io) "Power input", 20,25,30 GND (power) "Power input", 21 MISO/IO9 (io) "Power input", 22 IO25 (io) "Power input", 23 SCK/IO11 (io) "Power input", 24 ~{CS0}/IO8 (io) "Power input", 25 GND (power) "Power input", 26 ~{CS1}/IO7 (io) "Power input", 27 ID SDA (io) "Power input", 28 ID SCL (in) "Power input", 29 IO5 (io) "Power input", 30 GND (power) "Power input", 31 IO6 (io) "Power input", 32 IO12 (io) "Power input", 33 IO13 (io) "Power input", 34,39 GND (power) "Power input", 35 IO19 (io) "Power input", 36 IO16 (io) "Power input", 37 IO26 (io) "Power input", 38 IO20 (io) "Power input", 39 GND (power) "Power input", 40 IO21 (io) "Power input", 41,42 RUN (hiz) "Power input", 42 RUN (hiz) "Power input", 43 TV+ (out) "Power input", 44 TV+ (out) "Power input"

## S45835
designator U?
Lead-less carrier 20 pins for MEMS; Ref: S45835
footprint TINY 20.4 (LLC 20 pins for MEMs)
pins: 1 ROT2 X+ (power) "Power input", 2 ROT2 X- (power) "Power input", 4 GND (power) "Ground", 6 ROT3 Y- (power) "Power input", 7 ROT3 Y+ (power) "Power input", 9 GND (power) "Ground", 11 ROT4 X+ (power) "Power input", 12 ROT4 X- (power) "Power input", 14 GND (power) "Ground", 16 ROT1 Y- (power) "Power input", 17 ROT1 Y+ (power) "Power input", 19 GND (power) "Ground"

## SD 085-23-21-021
designator D?
Red Enhanced Quad Cell Silicon Photodiode; Ref: SD 085-23-21-021
footprint TO-5 (Advanced photonix TO-5)
pins: 1, 2, 3, 4, 5
text: A; B; C; D

## SIL02
designator J?  (value not drawn)
2.54mm Header 1x2; Ref: 4x1 2.54MM HEADER
footprint SIL02 (1x2 2.54mm header)
pins: 1, 2

## SIL04
designator J?  (value not drawn)
2.54mm Header 1x4 for PC PWM fan; Ref: 4x1 2.54MM HEADER
footprint SIL04 3+1 Horizontal (3+1 horizontal 2.54mm header for PC PWM fans)
footprint SIL04 RGB (4x1 2.54mm header machined screw terminal)
footprint SIL04 FEM PWM FAN (4x1 2.54mm header)
pins: 1, 2, 3, 4

## SIL06
designator J?  (value not drawn)
2.54mm Header 1x6; Ref: 4x1 2.54MM HEADER
footprint SIL06 (6x1 2.54mm header)
pins: 1, 2, 3, 4, 5, 6

## SMA THROUGH HOLE
designator J?, comment SMA
SMA through hole connector
footprint SMA 5-hole (SMA TH connector)
pins: 1 CORE, 2,3,4,5 SHEILD, 3 SHEILD, 4 SHEILD, 5 SHEILD

## SN65LVDS4
designator U?
1.8-V High-Speed  Differential  Line Receiver; Ref: SN65LVDS4
footprint UQFN 10 (Texas Instrument package RSE)
pins: 1,7 GND (power) "Power input", 2 IN+ (in) "Polarity selection", 3 IN- (in) "Polarity selection", 5 VCC (power) "Polarity selection", 7 GND (power) "Power input", 8 OUT (out), 10 VDD (power) "Polarity selection"

## SN74AVC2T244
designator U?
2-bit dual-supply non-inverting bus translator; Ref: SN74AVC2T244
footprint X2SON 8 (Texas Instrument package DQE)
pins: 1 VccA (power) "Power input", 2 A1 (in) "Output Fault Indicator", 3 A2 (in) "Output Fault Indicator", 4 ~{OE} (in) "Output Fault Indicator", 5 GND (power) "Ground", 6 B2 (out) "Output Fault Indicator", 7 B1 (out) "Output Fault Indicator", 8 VccB (power) "Power input"

## SN74AVC4T234
designator U?
4-bit dual-supply non-inverting bus translator; Ref: SN74AVC4T234
footprint CSP-11 (Ti ZSU)
pins: A1 A4 (out) "Output Fault Indicator", A3 (out) "Output Fault Indicator", A5 A2 (out) "Output Fault Indicator", A7 A1 (out) "Output Fault Indicator", B2 GND (power) "Ground", B4 VccB (power) "Power input", B6 VccA (power) "Power input", C1 B4 (in) "Output Fault Indicator", C3 B3 (in) "Output Fault Indicator", C5 B2 (in) "Output Fault Indicator", C7 B1 (in) "Output Fault Indicator"

## SN74LV1T34
designator U?
Single Power Supply Single Buffer GATE CMOS Logic Level Shifter; Ref: SN74LV1T34
footprint TSOT-23-5
pins: 2 A (in), 3 GND, 4 Y, 5 Vcc (power)

## SWITCH
designator SW?  (value not drawn)
Right-Angle Toogle Switch; Ref: 7101SD9AV2BE, 100SP1T2B4M7QE
footprint 7101SD9AV2BE (Toogle Switch)
pins: 1, 2, 3
text: low

## T1M-06-F-SH-L-K
designator J?
6 Contacts Connector; Ref: T1M-06-F-SH-L-K
footprint T1M-06-F-SH-L-K
pins: 1 (power) "Output Fault Indicator", 2 (power) "Ground", 3 (power) "Ground", 4 (power) "Ground", 5 (power) "Ground", 6 (power) "Output Fault Indicator", G1 M (power) "Ground", G2 M (power) "Ground"

## TDC-GPX2
designator U?
Time to Digital Converter; Ref: TDC-GPX2
footprint QFN64 (QFN64 for the TDC-GPX2)
pins: 1 FRAME1N (out) "Polarity selection", 2 FRAME1P (out) "Polarity selection", 3 SDO1N (out) "Polarity selection", 4 SDO1P (out) "Polarity selection", 5 FRAME2N (out) "Polarity selection", 6 FRAME2P (out) "Polarity selection", 7 SDO2N (out) "Polarity selection", 8 SDO2P (out) "Polarity selection", 9 FRAME3N (out) "Polarity selection", 10 FRAME3P (out) "Polarity selection", 11 SDO3N (out) "Polarity selection", 12 SDO3P (out) "Polarity selection", 13 FRAME4N (out) "Polarity selection", 14 FRAME4P (out) "Polarity selection", 15 SDO4N (out) "Polarity selection", 16 SDO4P (out) "Polarity selection", 17 LCLKOUTN (out) "Polarity selection", 18 LCLKOUTP (out) "Polarity selection", 19,21,62 DGND (power) "Polarity selection", 20,61 DVDD33 (power) "Polarity selection", 21 DGND (power) "Polarity selection", 22,60 DVDD18 (power) "Polarity selection", 23 RVDD33 (power) "Polarity selection", 24 DVDD18O (power) "Polarity selection", 25 TVDD18O (power) "Polarity selection", 26 CVDD18O (power) "Polarity selection", 27 RGND (power) "Polarity selection", 28 CGND (power) "Polarity selection", 29 CVDD18 (power) "Polarity selection", 30,51 TVDD18 (power) "Polarity selection", 31,37,50 TGND (power) "Polarity selection", 32,44,49 TVDD33 (power) "Polarity selection", 33 STOP4P (in) "Polarity selection", 34 STOP4N (in) "Polarity selection", 35 STOP3P (in) "Polarity selection", 36 STOP3N (in) "Polarity selection", 37 TGND (power) "Polarity selection", 38 DISABLEP (in) "Polarity selection", 39 DISABLEN (in) "Polarity selection", 40 REFCLKP (in) "Polarity selection", 41 REFCLKN (in) "Polarity selection", 42 RSTIDXP (in) "Polarity selection", 43 RSTIDXN (in) "Polarity selection", 44 TVDD33 (power) "Polarity selection", 45 STOP2P (in) "Polarity selection", 46 STOP2N (in) "Polarity selection", 47 STOP1P (in) "Polarity selection", 48 STOP1N (in) "Polarity selection", 49 TVDD33 (power) "Polarity selection", 50 TGND (power) "Polarity selection", 51 TVDD18 (power) "Polarity selection", 52 REFOSCI (in) "Polarity selection", 53 REFOSCO (out) "Polarity selection", 54 PARITY (out) "Polarity selection", 55 INTERRUPT (out) "Polarity selection", 56 SSN (in) "Polarity selection", 57 SCK (in) "Polarity selection", 58 MOSI (in) "Polarity selection", 59 MISO (out) "Polarity selection", 60 DVDD18 (power) "Polarity selection", 61 DVDD33 (power) "Polarity selection", 62 DGND (power) "Polarity selection", 63 LCLKINP (in) "Polarity selection", 64 LCLKINN (in) "Polarity selection", Pad PAD (power) "Polarity selection"

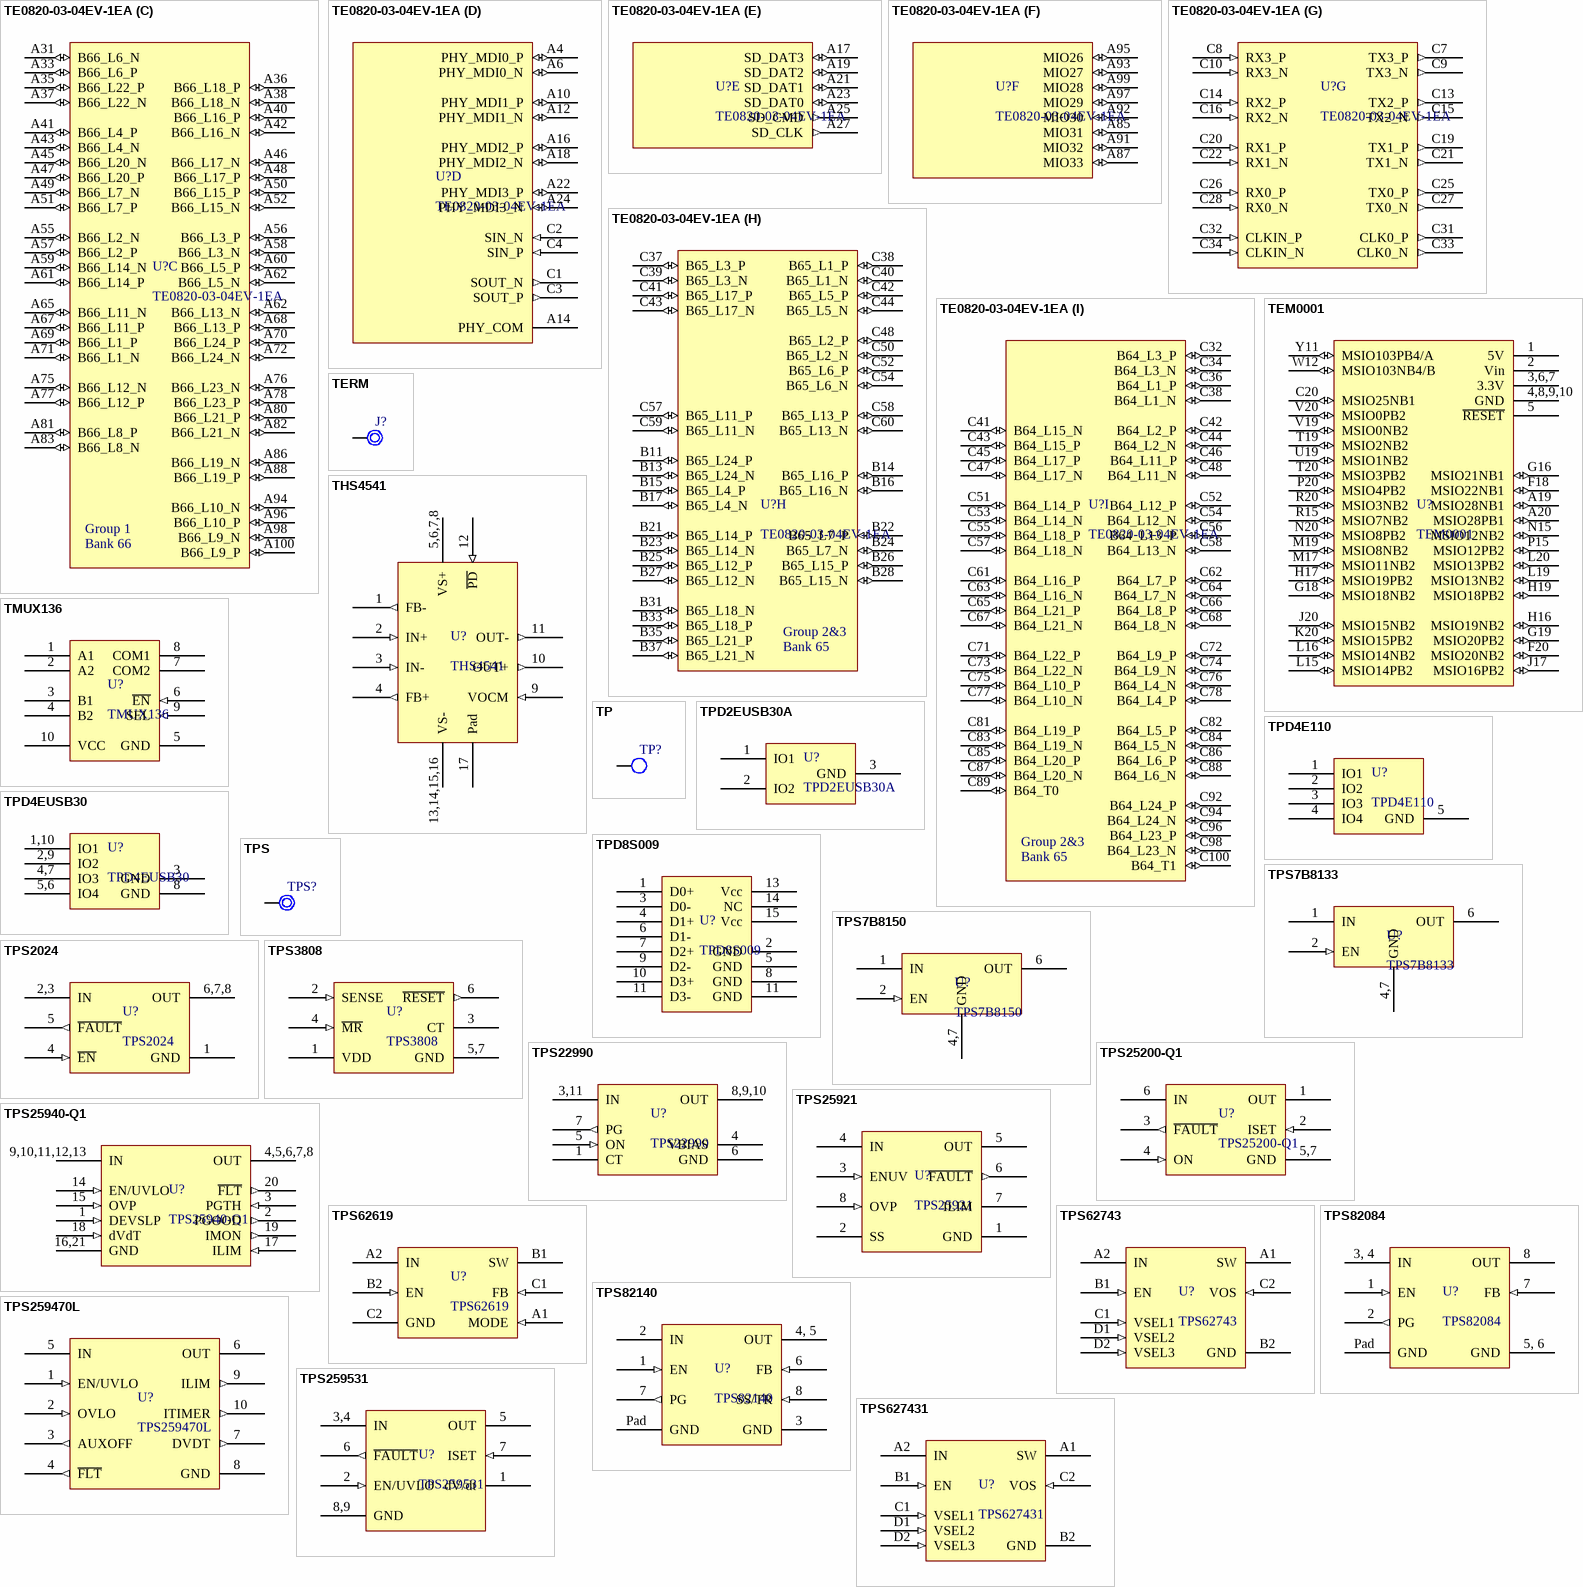
[diagram p8: symbols TE0820-03-04EV-1EA to TPS627431]

## TE0820-03-04EV-1EA
designator U?
Zynq UltraScale+ module with 2GB DDR4, 8GB eMMC; Ref: TE0820-03-04EV-1EA
part A pins: 1,2,3,4 GND (power) "Power input", 2 GND (power) "Power input", 3 GND (power) "Power input", 4 GND (power) "Power input", A1,A3,A5 PWR_1 (power) "Power input", A2,A8,A20,A26 GND (power) "Power input", A3 PWR_1 (power) "Power input", A5 PWR_1 (power) "Power input", A8 GND (power) "Power input", A9,A11 VCCIOA (power) "Power input", A11 VCCIOA (power) "Power input", A13,A15 PWR_2 (power) "Power input", A15 PWR_2 (power) "Power input", A20 GND (power) "Power input", A26 GND (power) "Power input", A29,A34,A44,A53 GND (power) "Power input", A34 GND (power) "Power input", A39 PWR_M2 (power) "Power output", A44 GND (power) "Power input", A53 GND (power) "Power input", A54,A63,A64,A73 GND (power) "Power input", A63 GND (power) "Power input", A64 GND (power) "Power input", A73 GND (power) "Power input", A74,A84,A90 GND (power) "Power input", A79 PWR_VBAT (power) "Power input", A84 GND (power) "Power input", A90 GND (power) "Power input", AF1,AF2 GND (power) "Power input", AF2 GND (power) "Power input", B1,B3 VCCIOB (power) "Power input", B2,B4,B6,B8 PWR_1 (power) "Power input", B3 VCCIOB (power) "Power input", B4 PWR_1 (power) "Power input", B5 VCCIOC (power) "Power input", B6 PWR_1 (power) "Power input", B7,B9 VCCIOD (power) "Power input", B8 PWR_1 (power) "Power input", B9 VCCIOD (power) "Power input", B10,B12 PWR_M1 (power) "Power output", B12 PWR_M1 (power) "Power output", B19 PWR_M3/NC (power) "Power output", B20,B29.B30,B39 GND (power) "Power input", B29 GND (power) "Power input", B30 GND (power) "Power input", B39 GND (power) "Power input", B40,B49,B50,B59 GND (power) "Power input", B49 GND (power) "Power input", B50 GND (power) "Power input", B59 GND (power) "Power input", B60,B69,B70,B79 GND (power) "Power input", B69 GND (power) "Power input", B70 GND (power) "Power input", B79 GND (power) "Power input", B80,B90 GND (power) "Power input", B90 GND (power) "Power input", BF1,BF2 GND (power) "Power input", BF2 GND (power) "Power input", C5,C6,C11,C12 GND (power) "Power input", C6 GND (power) "Power input", C11 GND (power) "Power input", C12 GND (power) "Power input", C17,C18,C23,C24 GND (power) "Power input", C18 GND (power) "Power input", C23 GND (power) "Power input", C24 GND (power) "Power input", C29,C30,C35,C36 GND (power) "Power input", C30 GND (power) "Power input", C35 GND (power) "Power input", C36 GND (power) "Power input", C45,C46 GND (power) "Power input", C46 GND (power) "Power input", C56 Group2 VREF (power) "Power output", CF1,CF2 GND (power) "Power input", CF2 GND (power) "Power input"
part B pins: A7 NOSEQ (in) "Input", A28 EN1 (in) "Power input", A30 PGOOD (out) "Output", A32 BOOTMODE (in) "Input", A89 JTAGEN (in) "Input", B18 RESIN (in) "Input", B91 PWR_JTAG (power) "Power output", B93 TMS (in) "Logic output", B95 TDI (in) "Logic output", B97 TDO (out) "Logic output", B99 TCK (in) "Logic output"
part C pins: A31 B66_L6_N (io) "FPGA IO", A33 B66_L6_P (io) "FPGA IO", A35 B66_L22_P (io) "FPGA IO", A36 B66_L18_P (io) "FPGA IO", A37 B66_L22_N (io) "FPGA IO", A38 B66_L18_N (io) "FPGA IO", A40 B66_L16_P (io) "FPGA IO", A41 B66_L4_P (io) "FPGA IO", A42 B66_L16_N (io) "FPGA IO", A43 B66_L4_N (io) "FPGA IO", A45 B66_L20_N (io) "FPGA IO", A46 B66_L17_N (io) "FPGA IO", A47 B66_L20_P (io) "FPGA IO", A48 B66_L17_P (io) "FPGA IO", A49 B66_L7_N (io) "FPGA IO", A50 B66_L15_P (io) "FPGA IO", A51 B66_L7_P (io) "FPGA IO", A52 B66_L15_N (io) "FPGA IO", A55 B66_L2_N (io) "FPGA IO", A56 B66_L3_P (io) "FPGA IO", A57 B66_L2_P (io) "FPGA IO", A58 B66_L3_N (io) "FPGA IO", A59 B66_L14_N (io) "FPGA IO", A60 B66_L5_P (io) "FPGA IO", A61 B66_L14_P (io) "FPGA IO", A62 B66_L5_N (io) "FPGA IO", A62 B66_L13_N (io) "FPGA IO", A65 B66_L11_N (io) "FPGA IO", A67 B66_L11_P (io) "FPGA IO", A68 B66_L13_P (io) "FPGA IO", A69 B66_L1_P (io) "FPGA IO", A70 B66_L24_P (io) "FPGA IO", A71 B66_L1_N (io) "FPGA IO", A72 B66_L24_N (io) "FPGA IO", A75 B66_L12_N (io) "FPGA IO", A76 B66_L23_N (io) "FPGA IO", A77 B66_L12_P (io) "FPGA IO", A78 B66_L23_P (io) "FPGA IO", A80 B66_L21_P (io) "FPGA IO", A81 B66_L8_P (io) "FPGA IO", A82 B66_L21_N (io) "FPGA IO", A83 B66_L8_N (io) "FPGA IO", A86 B66_L19_N (io) "FPGA IO", A88 B66_L19_P (io) "FPGA IO", A94 B66_L10_N (io) "FPGA IO", A96 B66_L10_P (io) "FPGA IO", A98 B66_L9_N (io) "FPGA IO", A100 B66_L9_P (io) "FPGA IO"
part D pins: A4 PHY_MDI0_P (io) "Logic output", A6 PHY_MDI0_N (io) "Logic output", A10 PHY_MDI1_P (io) "Logic output", A12 PHY_MDI1_N (io) "Logic output", A14 PHY_COM (power) "Power output", A16 PHY_MDI2_P (io) "Logic output", A18 PHY_MDI2_N (io) "Logic output", A22 PHY_MDI3_P (io) "Logic output", A24 PHY_MDI3_N (io) "Logic output", C1 SOUT_N (out) "Logic output", C2 SIN_N (in) "Logic output", C3 SOUT_P (out) "Logic output", C4 SIN_P (in) "Logic output"
part E pins: A17 SD_DAT3 (io) "Logic output", A19 SD_DAT2 (io) "Logic output", A21 SD_DAT1 (io) "Logic output", A23 SD_DAT0 (io) "Logic output", A25 SD_CMD (out) "Logic output", A27 SD_CLK (out) "Logic output"
part F pins: A85 MIO31 (io) "Logic output", A87 MIO33 (io) "Logic output", A91 MIO32 (io) "Logic output", A92 MIO30 (io) "Logic output", A93 MIO27 (io) "Logic output", A95 MIO26 (io) "Logic output", A97 MIO29 (io) "Logic output", A99 MIO28 (io) "Logic output"
part G pins: C7 TX3_P (out) "Logic output", C8 RX3_P (in) "Logic output", C9 TX3_N (out) "Logic output", C10 RX3_N (in) "Logic output", C13 TX2_P (out) "Logic output", C14 RX2_P (in) "Logic output", C15 TX2_N (out) "Logic output", C16 RX2_N (in) "Logic output", C19 TX1_P (out) "Logic output", C20 RX1_P (in) "Logic output", C21 TX1_N (out) "Logic output", C22 RX1_N (in) "Logic output", C25 TX0_P (out) "Logic output", C26 RX0_P (in) "Logic output", C27 TX0_N (out) "Logic output", C28 RX0_N (in) "Logic output", C31 CLK0_P (out) "Logic output", C32 CLKIN_P (in) "Logic output", C33 CLK0_N (out) "Logic output", C34 CLKIN_N (in) "Logic output"
part H pins: B11 B65_L24_P (io) "FPGA IO", B13 B65_L24_N (io) "FPGA IO", B14 B65_L16_P (io) "FPGA IO", B15 B65_L4_P (io) "FPGA IO", B16 B65_L16_N (io) "FPGA IO", B17 B65_L4_N (io) "FPGA IO", B21 B65_L14_P (io) "FPGA IO", B22 B65_L7_P (io) "FPGA IO", B23 B65_L14_N (io) "FPGA IO", B24 B65_L7_N (io) "FPGA IO", B25 B65_L12_P (io) "FPGA IO", B26 B65_L15_P (io) "FPGA IO", B27 B65_L12_N (io) "FPGA IO", B28 B65_L15_N (io) "FPGA IO", B31 B65_L18_N (io) "FPGA IO", B33 B65_L18_P (io) "FPGA IO", B35 B65_L21_P (io) "FPGA IO", B37 B65_L21_N (io) "FPGA IO", C37 B65_L3_P (io) "FPGA IO", C38 B65_L1_P (io) "FPGA IO", C39 B65_L3_N (io) "FPGA IO", C40 B65_L1_N (io) "FPGA IO", C41 B65_L17_P (io) "FPGA IO", C42 B65_L5_P (io) "FPGA IO", C43 B65_L17_N (io) "FPGA IO", C44 B65_L5_N (io) "FPGA IO", C48 B65_L2_P (io) "FPGA IO", C50 B65_L2_N (io) "FPGA IO", C52 B65_L6_P (io) "FPGA IO", C54 B65_L6_N (io) "FPGA IO", C57 B65_L11_P (io) "FPGA IO", C58 B65_L13_P (io) "FPGA IO", C59 B65_L11_N (io) "FPGA IO", C60 B65_L13_N (io) "FPGA IO"
part I pins: C32 B64_L3_P (io) "FPGA IO", C34 B64_L3_N (io) "FPGA IO", C36 B64_L1_P (io) "FPGA IO", C38 B64_L1_N (io) "FPGA IO", C41 B64_L15_N (io) "FPGA IO", C42 B64_L2_P (io) "FPGA IO", C43 B64_L15_P (io) "FPGA IO", C44 B64_L2_N (io) "FPGA IO", C45 B64_L17_P (io) "FPGA IO", C46 B64_L11_P (io) "FPGA IO", C47 B64_L17_N (io) "FPGA IO", C48 B64_L11_N (io) "FPGA IO", C51 B64_L14_P (io) "FPGA IO", C52 B64_L12_P (io) "FPGA IO", C53 B64_L14_N (io) "FPGA IO", C54 B64_L12_N (io) "FPGA IO", C55 B64_L18_P (io) "FPGA IO", C56 B64_L13_P (io) "FPGA IO", C57 B64_L18_N (io) "FPGA IO", C58 B64_L13_N (io) "FPGA IO", C61 B64_L16_P (io) "FPGA IO", C62 B64_L7_P (io) "FPGA IO", C63 B64_L16_N (io) "FPGA IO", C64 B64_L7_N (io) "FPGA IO", C65 B64_L21_P (io) "FPGA IO", C66 B64_L8_P (io) "FPGA IO", C67 B64_L21_N (io) "FPGA IO", C68 B64_L8_N (io) "FPGA IO", C71 B64_L22_P (io) "FPGA IO", C72 B64_L9_P (io) "FPGA IO", C73 B64_L22_N (io) "FPGA IO", C74 B64_L9_N (io) "FPGA IO", C75 B64_L10_P (io) "FPGA IO", C76 B64_L4_N (io) "FPGA IO", C77 B64_L10_N (io) "FPGA IO", C78 B64_L4_P (io) "FPGA IO", C81 B64_L19_P (io) "FPGA IO", C82 B64_L5_P (io) "FPGA IO", C83 B64_L19_N (io) "FPGA IO", C84 B64_L5_N (io) "FPGA IO", C85 B64_L20_P (io) "FPGA IO", C86 B64_L6_P (io) "FPGA IO", C87 B64_L20_N (io) "FPGA IO", C88 B64_L6_N (io) "FPGA IO", C89 B64_T0 (io) "FPGA IO", C92 B64_L24_P (io) "FPGA IO", C94 B64_L24_N (io) "FPGA IO", C96 B64_L23_P (io) "FPGA IO", C98 B64_L23_N (io) "FPGA IO", C100 B64_T1 (io) "FPGA IO"
part C text: Group 1; Bank 66
part H text: Group 2&3; Bank 65
part I text: Group 2&3; Bank 65

## TEM0001
designator U?
Smartfusion2 module with 8 MByte SDRAM; Ref: TEM0001
footprint TEM0001 (Smartfusion2 module)
pins: 1 5V (power) "Power input", 2 Vin (power) "Power input", 3,6,7 3.3V (power) "Power input", 4,8,9,10 GND (power) "Power input", 5 ~{RESET} (hiz) "Power input", 6 3.3V (power) "Power input", 7 3.3V (power) "Power input", 8 GND (power) "Power input", 9 GND (power) "Power input", 10 GND (power) "Power input", A19 MSIO28NB1 (io) "Power input", A20 MSIO28PB1 (io) "Power input", C20 MSIO25NB1 (io) "Power input", F18 MSIO22NB1 (io) "Power input", F20 MSIO20NB2 (io) "Power input", G16 MSIO21NB1 (io) "Power input", G18 MSIO18NB2 (io) "Power input", G19 MSIO20PB2 (io) "Power input", H16 MSIO19NB2 (io) "Power input", H17 MSIO19PB2 (io) "Power input", H19 MSIO18PB2 (io) "Power input", J17 MSIO16PB2 (io) "Power input", J20 MSIO15NB2 (io) "Power input", K20 MSIO15PB2 (io) "Power input", L15 MSIO14PB2 (io) "Power input", L16 MSIO14NB2 (io) "Power input", L19 MSIO13NB2 (io) "Power input", L20 MSIO13PB2 (io) "Power input", M17 MSIO11NB2 (io) "Power input", M19 MSIO8NB2 (io) "Power input", N15 MSIO12NB2 (io) "Power input", N20 MSIO8PB2 (io) "Power input", P15 MSIO12PB2 (io) "Power input", P20 MSIO4PB2 (io) "Power input", R15 MSIO7NB2 (io) "Power input", R20 MSIO3NB2 (io) "Power input", T19 MSIO2NB2 (io) "Power input", T20 MSIO3PB2 (io) "Power input", U19 MSIO1NB2 (io) "Power input", V19 MSIO0NB2 (io) "Power input", V20 MSIO0PB2 (io) "Power input", W12 MSIO103NB4/B (io) "Power input", Y11 MSIO103PB4/A (io) "Power input"

## TERM
designator J?  (value not drawn)
Test point; Ref: Keystone 1378-1
footprint TH POST (Keystone 1378-1through-hole post)
pins: 1 TP

## THS4541
designator U?
Negative Rail Input, Rail-to-Rail Output, Precision, 850-MHz Fully Differential Amplifier; Ref: THS4541
footprint LFCSP CP 16 2 (Analog devive package LFCSP CP 16 2)
pins: 1 FB- (out) "Polarity selection", 2 IN+ (in) "Polarity selection", 3 IN- (in) "Polarity selection", 4 FB+ (out) "Polarity selection", 5,6,7,8 VS+ (power) "Power input", 6 VS+ (power) "Power input", 7 VS+ (power) "Power input", 8 VS+ (power) "Power input", 9 VOCM (in), 10 OUT+ (out), 11 OUT- (out), 12 ~{PD} (in) "Polarity selection", 13,14,15,16 VS- (power) "Power input", 14 VS- (power) "Power input", 15 VS- (power) "Power input", 16 VS- (power) "Power input", 17 Pad (power) "Ground"

## TMUX136
designator U?
TMUX136 6-GHz, 2-Channel, 2:1 Switch, With Power-off Isolation; Ref: TMUX136
footprint UQFN 10 (Texas Instrument package RSE)
pins: 1 A1 (power) "Polarity selection", 2 A2 (power) "Polarity selection", 3 B1 (power) "Polarity selection", 4 B2 (power) "Polarity selection", 5 GND (power) "Power input", 6 ~{EN} (in) "Polarity selection", 7 COM2 (power) "Polarity selection", 8 COM1 (power) "Polarity selection", 9 SEL (in) "Polarity selection", 10 VCC (power) "Polarity selection"

## TP
designator TP?  (value not drawn)  (no BOM)
Test point
footprint TEST POINT P (Pad test point)
pins: 1 TP

## TPD2EUSB30A
designator U?
2 Channel Protection Solution for Super-Speed (Up to 6 GBPS) Interface; Ref: TPD2EUSB30A
footprint DRT (Ti DRT - 3 pin SOT)
pins: 1 IO1 (power) "Power input", 2 IO2 (power) "Power input", 3 GND (power) "Power input"

## TPD4E110
designator U?
4 Channel Protection Solution for Super-Speed (Up to 6 GBPS) Interface; Ref: TPD4E110
footprint X2SON (TI X2SON package)
pins: 1 IO1 (power) "Power input", 2 IO2 (power) "Power input", 3 IO3 (power) "Power input", 4 IO4 (power) "Power input", 5 GND (power) "Power input"

## TPD4EUSB30
designator U?
4 Channel Protection Solution for Super-Speed (Up to 6 GBPS) Interface; Ref: TPD4EUSB30
footprint USON 10 (Texas Instrument package DQA)
pins: 1,10 IO1 (power) "Power input", 2,9 IO2 (power) "Power input", 3 GND (power) "Power input", 4,7 IO3 (power) "Power input", 5,6 IO4 (power) "Power input", 6 IO4 (power) "Power input", 7 IO3 (power) "Power input", 8 GND (power) "Power input", 9 IO2 (power) "Power input", 10 IO1 (power) "Power input"

## TPD8S009
designator U?
8-Channel ESD Protection for DisplayPort and HDMI; Ref: TPD8S009
footprint SON15 (TI SON 15 package)
pins: 1 D0+ (power) "Power input", 2 GND (power) "Power input", 3 D0- (power) "Power input", 4 D1+ (power) "Power input", 5 GND (power) "Power input", 6 D1- (power) "Power input", 7 D2+ (power) "Power input", 8 GND (power) "Power input", 9 D2- (power) "Power input", 10 D3+ (power) "Power input", 11 GND (power) "Power input", 11 D3- (power) "Power input", 13 Vcc (power) "Power input", 14 NC (power) "Power input", 15 Vcc (power) "Power input"

## TPS
designator TPS?  (value not drawn)
Test point; Ref: Keystone 5015
footprint TEST POINT S (Surface mount test point)
pins: 1 TP

## TPS7B8133
designator U?
150-mA, 40-V, Ultra-Low-IQ, Low-Dropout Regulator; Ref: TPS7B8133
footprint TDFN6 2x2 (Texas Instrument DRV (S-PWSON-N6) package)
pins: 1 IN (power) "Power input", 2 EN (in) "Output Fault Indicator", 4,7 GND (power) "Ground", 6 OUT (power) "Power input", 7 GND (power) "Ground"

## TPS7B8150
designator U?
150-mA, 40-V, Ultra-Low-IQ, Low-Dropout Regulator; Ref: TPS7B8150
footprint TDFN6 2x2 (Texas Instrument DRV (S-PWSON-N6) package)
pins: 1 IN (power) "Power input", 2 EN (in) "Output Fault Indicator", 4,7 GND (power) "Ground", 6 OUT (power) "Power input", 7 GND (power) "Ground"

## TPS2024
designator U?
33-m Ω On-Resistance Load Switch; Ref: TPS2024
footprint SO-8 (SO-8 large pads)
pins: 1 GND (power) "Ground", 2,3 IN (power) "Power input", 3 IN (power) "Power input", 4 ~{EN} (in) "On/Off Control", 5 ~{FAULT} (out) "Output Fault Indicator", 6,7,8 OUT (power) "Power input", 7 OUT (power) "Power input", 8 OUT (power) "Power input"

## TPS3808
designator U?
Low-Quiescent-Current, Programmable-Delay Supervisory Circuit; Ref: TPS3808
footprint TDFN6 2x2 (Texas Instrument DRV (S-PWSON-N6) package)
pins: 1 VDD (power) "Power input", 2 SENSE (in) "Output Fault Indicator", 3 CT "Output Fault Indicator", 4 ~{MR} (in) "On/Off Control", 5,7 GND (power) "Ground", 6 ~{RESET} (out) "Power input", 7 GND (power) "Ground"

## TPS22990
designator U?
5.5-V, 10-A, 3.9-mΩ On-Resistance Load Switch; Ref: TPS22990
footprint TDFN10 2x3 (Texas Instrument DML0010A package)
pins: 1 CT (power) "Power input", 3,11 IN (power) "Power input", 4 VBIAS (power) "Power input", 5 ON (in) "Polarity selection", 6 GND (power) "Power input", 7 PG (out) "Polarity selection", 8,9,10 OUT (power) "Power input", 9 OUT (power) "Power input", 10 OUT (power) "Power input", 11 IN (power) "Power input"

## TPS25200-Q1
designator U?
67-m Ω On-Resistance Load Switch; Ref: TPS25200-Q1
footprint SON6 (TI WSON 6 package)
pins: 1 OUT (power) "Power input", 2 ISET (in) "Current limit setting", 3 ~{FAULT} (out) "Output Fault Indicator", 4 ON (in) "On/Off Control", 5,7 GND (power) "Ground", 6 IN (power) "Power input", 7 GND (power) "Ground"

## TPS25921
designator U?
4.5V - 18V eFuse with Precise Current Limit and Over Voltage Protection; Ref: TPS25921
footprint SO-8 (SO-8 large pads)
pins: 1 GND (power) "Ground", 2 SS (hiz) "On/Off Control", 3 ENUV (in) "On/Off Control", 4 IN (power) "Power input", 5 OUT (power) "Power input", 6 ~{FAULT} (out) "Output Fault Indicator", 7 ILIM (hiz) "On/Off Control", 8 OVP (in) "On/Off Control"